# EAGLE library part MC100EP210SFAG (library ON_Semiconductor_By_element14_Batch_1)
2.5V 1:5 Dual Differential LVDS Compatible Clock Driver
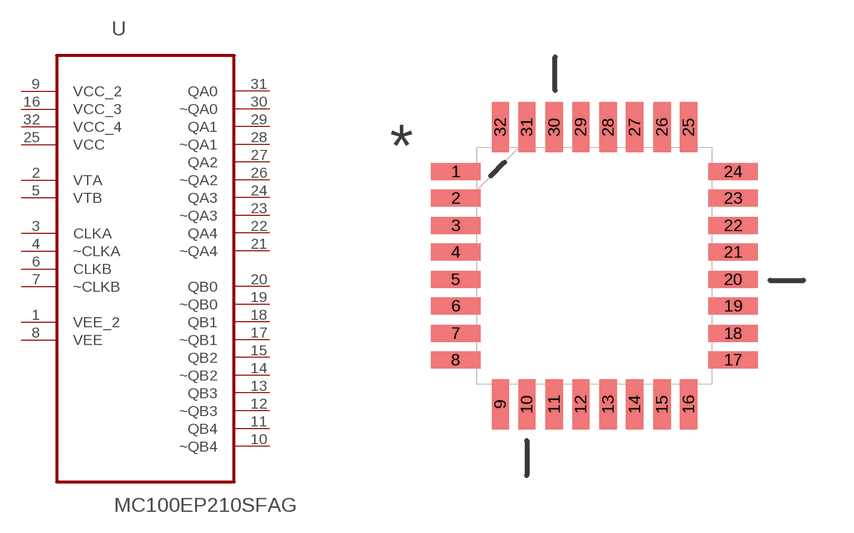
[diagram p111: symbol with the pads of QFP80P900X900X160-32N; footprint QFP80P900X900X160-32N]

Designator prefix U

## MC100EP210SFAG (MPN: MC100EP210SFAG; OC_FARNELL: 1260024; OC_NEWARK: 26K3859; PACKAGE: LQFP-32; SUPPLIER: ON SEMICONDUCTOR)  [QFP80P900X900X160-32N]
1  VEE_2  pas
2  VTA  in
3  CLKA  in
4  ~CLKA  in
5  VTB  in
6  CLKB  in
7  ~CLKB  in
8  VEE  pas
9  VCC_2  pwr
10  ~QB4  out
11  QB4  out
12  ~QB3  out
13  QB3  pwr
14  ~QB2  out
15  QB2  out
16  VCC_3  pwr
17  ~QB1  out
18  QB1  out
19  ~QB0  out
20  QB0  out
21  ~QA4  out
22  QA4  out
23  ~QA3  out
24  QA3  out
25  VCC  pwr
26  ~QA2  out
27  QA2  out
28  ~QA1  out
29  QA1  out
30  ~QA0  out
31  QA0  out
32  VCC_4  pwr

## Footprint QFP80P900X900X160-32N (pad centres in mm)
smd 1.473 x 0.508: 1 -4.115,2.794; 2 -4.115,2.007; 3 -4.115,1.194; 4 -4.115,0.406; 5 -4.115,-0.406; 6 -4.115,-1.194; 7 -4.115,-2.007; 8 -4.115,-2.794; 17 4.115,-2.794; 18 4.115,-2.007; 19 4.115,-1.194; 20 4.115,-0.406; 21 4.115,0.406; 22 4.115,1.194; 23 4.115,2.007; 24 4.115,2.794
smd 0.508 x 1.473: 9 -2.794,-4.115; 10 -2.007,-4.115; 11 -1.194,-4.115; 12 -0.406,-4.115; 13 0.406,-4.115; 14 1.194,-4.115; 15 2.007,-4.115; 16 2.794,-4.115; 25 2.794,4.115; 26 2.007,4.115; 27 1.194,4.115; 28 0.406,4.115; 29 -0.406,4.115; 30 -1.194,4.115; 31 -2.007,4.115; 32 -2.794,4.115